# Altium schematic symbol library Projekat.SchLib: 30 symbols
Pins are listed as number, name and electrical type; pins without a type are passive.

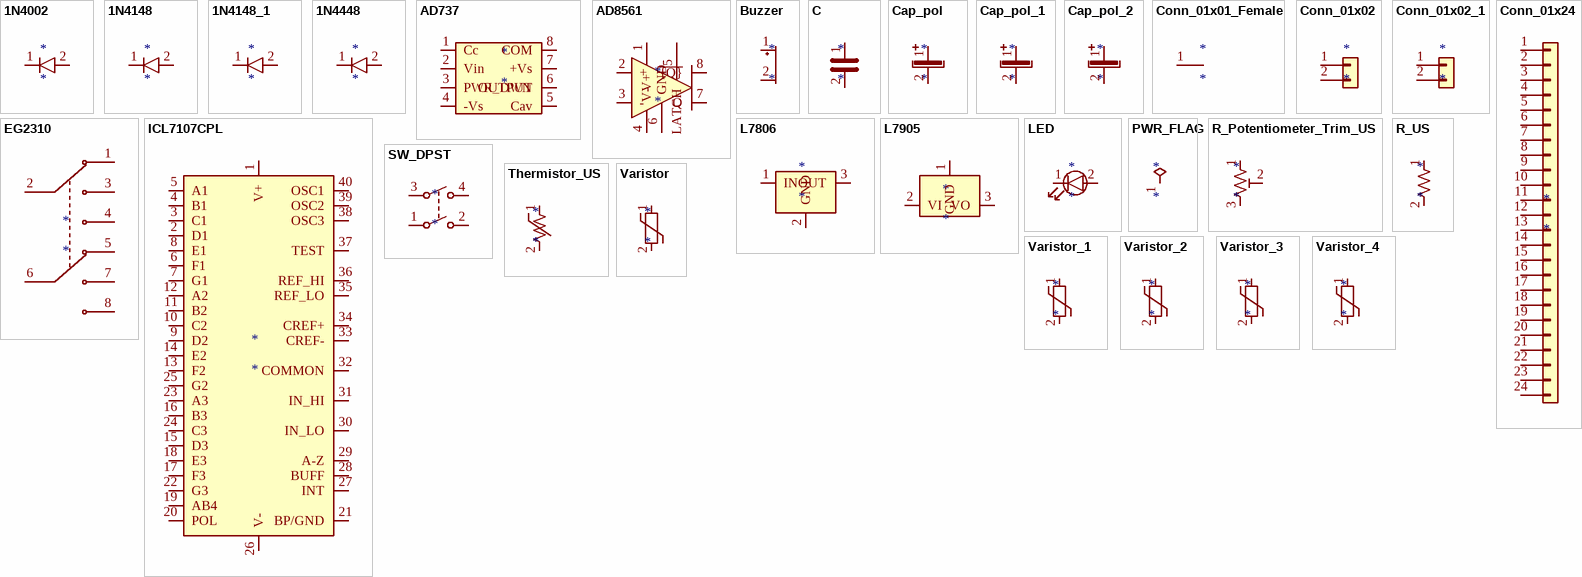
[diagram p0: symbols 1N4002 to Varistor_4]

## 1N4002
designator *
pins: 1 K, 2 A

## 1N4148
designator *
pins: 1 K, 2 A

## 1N4148_1
designator *
pins: 1 K, 2 A

## 1N4448
designator *
pins: 1 K, 2 A

## AD737
designator *
pins: 1 Cc, 2 Vin, 3 PWR_DWN, 4 -Vs, 5 Cav, 6 OUTPUT, 7 +Vs, 8 COM

## AD8561
designator *
pins: 1 V+, 2 +, 3 -, 4 V-, 5 LATCH, 6 GND, 7 Q, 8 ~{{Q}}

## Buzzer
designator *
pins: 1 -, 2 +

## C
designator *
pins: 1, 2

## Cap_pol
designator *
pins: 1, 2

## Cap_pol_1
designator *
pins: 1, 2

## Cap_pol_2
designator *
pins: 1, 2

## Conn_01x01_Female
designator *
pins: 1 Pin_1

## Conn_01x02
designator *
pins: 1 Pin_1, 2

## Conn_01x02_1
designator *
pins: 1 Pin_1, 2 Pin_2

## Conn_01x24
designator *
pins: 1 Pin_1, 2 Pin_2, 3 Pin_3, 4 Pin_4, 5 Pin_5, 6 Pin_6, 7 Pin_7, 8 Pin_8, 9 Pin_9, 10 Pin_10, 11 Pin_11, 12 Pin_12, 13 Pin_13, 14 Pin_14, 15 Pin_15, 16 Pin_16, 17 Pin_17, 18 Pin_18, 19 Pin_19, 20 Pin_20, 21 Pin_21, 22 Pin_22, 23 Pin_23, 24 Pin_24

## EG2310
designator *
pins: 1, 2, 3, 4, 5, 6, 7, 8

## ICL7107CPL
designator *
pins: 1 V+, 2 D1, 3 C1, 4 B1, 5 A1, 6 F1, 7 G1, 8 E1, 9 D2, 10 C2, 11 B2, 12 A2, 13 F2, 14 E2, 15 D3, 16 B3, 17 F3, 18 E3, 19 AB4, 20 POL, 21 BP/GND, 22 G3, 23 A3, 24 C3, 25 G2, 26 V-, 27 INT, 28 BUFF, 29 A-Z, 30 IN_LO, 31 IN_HI, 32 COMMON, 33 CREF-, 34 CREF+, 35 REF_LO, 36 REF_HI, 37 TEST, 38 OSC3, 39 OSC2, 40 OSC1

## L7806
designator *
pins: 1 IN, 2 GND, 3 OUT

## L7905
designator *
pins: 1 GND, 2 VI, 3 VO

## LED
designator *
pins: 1 K, 2 A

## PWR_FLAG
designator *  (graphical)
pins: 1 pwr

## R_Potentiometer_Trim_US
designator *
pins: 1, 2, 3

## R_US
designator *
pins: 1, 2

## SW_DPST
designator *
pins: 1, 2, 3, 4

## Thermistor_US
designator *
pins: 1, 2

## Varistor
designator *
pins: 1, 2

## Varistor_1
designator *
pins: 1, 2

## Varistor_2
designator *
pins: 1, 2

## Varistor_3
designator *
pins: 1, 2

## Varistor_4
designator *
pins: 1, 2